# Altium schematic symbol library CONN1X8_Phoenix.Schlib: 1 symbol
Pins are listed as number, name and electrical type; pins without a type are passive.

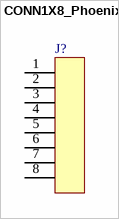
[diagram p0: symbol CONN1X8_Phoenix]

## CONN1X8_Phoenix
designator J?
footprint CON Phoenix- 8Pin (Phonix connector)
pins: 1, 2, 3, 4, 5, 6, 7, 8